# Altium footprint library WLCSP100N0.40P10X10_5.1X4.8X0.6-100_100.PcbLib: 1 footprints
Each footprint in its own frame and in the unit in brackets; x right, y up, seen from the top. Pads: shape width x height; smd on the part's side, far side on the other; paste and mask are expansions set on the pad; w line width, h text height; cw(c..) or ccw(c..) is an arc to the next point about the centre after c.
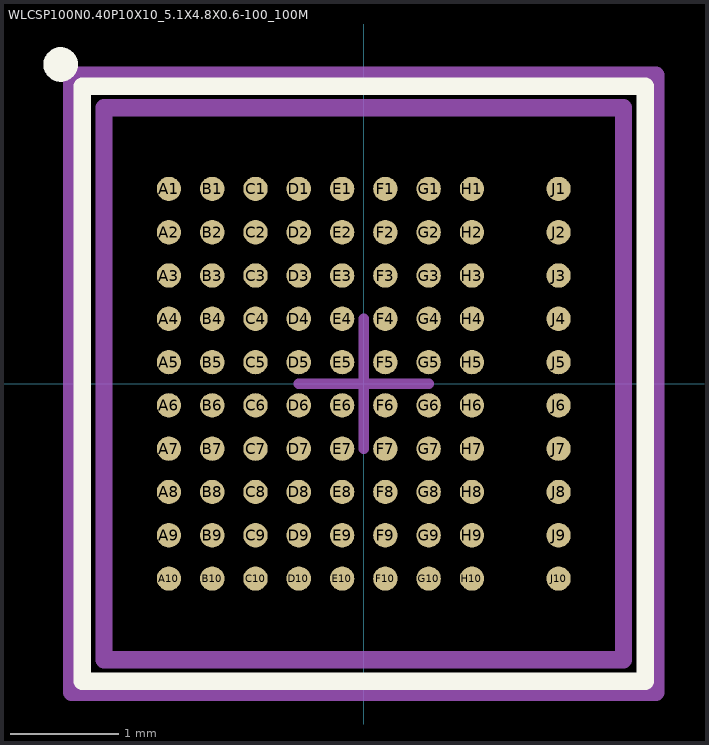
[diagram p0: the footprint, top view; thin cyan lines are the x and y axes]

## WLCSP100N0.40P10X10_5.1X4.8X0.6-100_100M [mm] "WLCSP 100 4.8x5.1x0.6 P 0.4 mm"
height 0.6
pads (90):
  round 0.225 smd: A1(-1.8,1.8) A2(-1.8,1.4) A3(-1.8,1) A4(-1.8,0.6) A5(-1.8,0.2) A6(-1.8,-0.2) A7(-1.8,-0.6) A8(-1.8,-1) A9(-1.8,-1.4) A10(-1.8,-1.8) B1(-1.4,1.8) B2(-1.4,1.4) B3(-1.4,1) B4(-1.4,0.6) B5(-1.4,0.2) B6(-1.4,-0.2) B7(-1.4,-0.6) B8(-1.4,-1) B9(-1.4,-1.4) B10(-1.4,-1.8) C1(-1,1.8) C2(-1,1.4) C3(-1,1) C4(-1,0.6) C5(-1,0.2) C6(-1,-0.2) C7(-1,-0.6) C8(-1,-1) C9(-1,-1.4) C10(-1,-1.8) D1(-0.6,1.8) D2(-0.6,1.4) D3(-0.6,1) D4(-0.6,0.6) D5(-0.6,0.2) D6(-0.6,-0.2) D7(-0.6,-0.6) D8(-0.6,-1) D9(-0.6,-1.4) D10(-0.6,-1.8) E1(-0.2,1.8) E2(-0.2,1.4) E3(-0.2,1) E4(-0.2,0.6) E5(-0.2,0.2) E6(-0.2,-0.2) E7(-0.2,-0.6) E8(-0.2,-1) E9(-0.2,-1.4) E10(-0.2,-1.8) F1(0.2,1.8) F2(0.2,1.4) F3(0.2,1) F4(0.2,0.6) F5(0.2,0.2) F6(0.2,-0.2) F7(0.2,-0.6) F8(0.2,-1) F9(0.2,-1.4) F10(0.2,-1.8) G1(0.6,1.8) G2(0.6,1.4) G3(0.6,1) G4(0.6,0.6) G5(0.6,0.2) G6(0.6,-0.2) G7(0.6,-0.6) G8(0.6,-1) G9(0.6,-1.4) G10(0.6,-1.8) H1(1,1.8) H2(1,1.4) H3(1,1) H4(1,0.6) H5(1,0.2) H6(1,-0.2) H7(1,-0.6) H8(1,-1) H9(1,-1.4) H10(1,-1.8) J1(1.8,1.8) J2(1.8,1.4) J3(1.8,1) J4(1.8,0.6) J5(1.8,0.2) J6(1.8,-0.2) J7(1.8,-0.6) J8(1.8,-1) J9(1.8,-1.4) J10(1.8,-1.8)
Top Overlay:
  circle w0.16: c-2.8,2.95 r0.08
  lines w0.16: -2.6,-2.75 2.6,-2.75 2.6,2.75 -2.6,2.75 -2.6,-2.75
Top Component Center:
  lines w0.1: -0.6,0 0.6,0 ; 0,-0.6 0,0.6
Top Courtyard:
  lines w0.16: -2.7,-2.85 2.7,-2.85 2.7,2.85 -2.7,2.85 -2.7,-2.85
Top Assembly:
  lines w0.16: -2.4,-2.55 2.4,-2.55 2.4,2.55 -2.4,2.55 -2.4,-2.55
3D body "WLCSP100N0.40P10X10_5.1X4.8X0.6-100_100M.STEP": height 0.6, standoff 0, extent -2.4,-2.55 2.4,2.55